# Altium schematic symbol library IRLML6244TRPBF.SchLib: 1 symbol
Pins are listed as number, name and electrical type; pins without a type are passive.

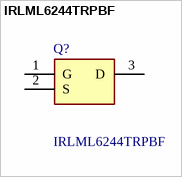
[diagram p0: symbol IRLML6244TRPBF]

## IRLML6244TRPBF
designator Q?
INFINEON - IRLML6244TRPBF - MOSFET, N CH, 20V, 6.3A, SOT-23; Geometry.Height: 1.12mm; Manufacturer_Name: Infineon; Manufacturer_Part_Number: IRLML6244TRPBF; Mouser Part Number: 942-IRLML6244TRPBF; Mouser Price/Stock: https://www.mouser.co.uk/ProductDetail/Infineon-Technologies/IRLML6244TRPBF?qs=9%252BKlkBgLFf1HkY%2F2U%252BIhLQ%3D%3D; Arrow Part Number: IRLML6244TRPBF; Arrow Price/Stock: https://www.arrow.com/en/products/irlml6244trpbf/infineon-technologies-ag?utm_currency=USD&region=europe; Datasheet Link: http://www.infineon.com/dgdl/irlml6244pbf.pdf?fileId=5546d462533600a4015356686fed261f
footprint SOT95P237X112-3N
pins: 1 G, 2 S, 3 D